# Altium footprint library Header_254.PcbLib: 78 footprints (part 9 of 9)
Each footprint in its own frame and in the unit in brackets; x right, y up, seen from the top. Pads: shape width x height; smd on the part's side, far side on the other; paste and mask are expansions set on the pad; w line width, h text height; cw(c..) or ccw(c..) is an arc to the next point about the centre after c.
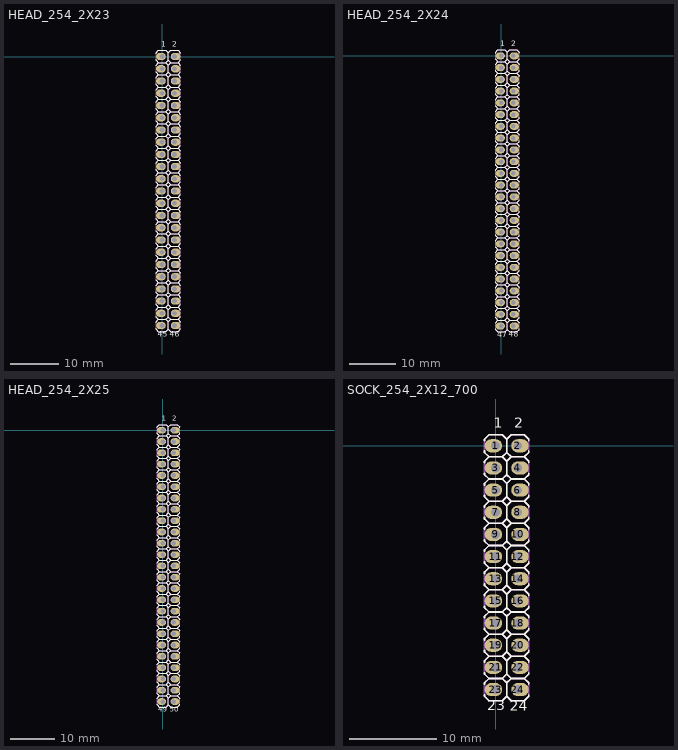
[diagram p8: the footprints below, top view; thin cyan lines are the x and y axes]

## HEAD_254_2X23 [mm] "Header 2.54mm 2x23"
pads (46):
  oval 2x1.5 hole 1 copper offset -0.25,0: 1(0,0) 3(0,-2.54) 5(0,-5.08) 7(0,-7.62) 9(0,-10.16) 11(0,-12.7) 13(0,-15.24) 15(0,-17.78) 17(0,-20.32) 19(0,-22.86) 21(0,-25.4) 23(0,-27.94) 25(0,-30.48) 27(0,-33.02) 29(0,-35.56) 31(0,-38.1) 33(0,-40.64) 35(0,-43.18) 37(0,-45.72) 39(0,-48.26) 41(0,-50.8) 43(0,-53.34) 45(0,-55.88)
  oval 2x1.5 hole 1 copper offset 0.25,0: 2(2.54,0) 4(2.54,-2.54) 6(2.54,-5.08) 8(2.54,-7.62) 10(2.54,-10.16) 12(2.54,-12.7) 14(2.54,-15.24) 16(2.54,-17.78) 18(2.54,-20.32) 20(2.54,-22.86) 22(2.54,-25.4) 24(2.54,-27.94) 26(2.54,-30.48) 28(2.54,-33.02) 30(2.54,-35.56) 32(2.54,-38.1) 34(2.54,-40.64) 36(2.54,-43.18) 38(2.54,-45.72) 40(2.54,-48.26) 42(2.54,-50.8) 44(2.54,-53.34) 46(2.54,-55.88)
Top Overlay:
  drawing of 347 lines, arcs and shapes, not listed
  text "46" at 1.597,-58.671 h2
  text "45" at -0.948,-58.669 h2
  text "2" at 2.115,1.644 h2
  text "1" at -0.236,1.644 h2
Bottom Overlay:
  text "46" at 3.483,-58.417 h2
  text "45" at 0.948,-58.415 h2
  text "2" at 2.965,0.882 h2
  text "1" at 0.236,0.882 h2
Top Assembly:
  drawing of 301 lines, arcs and shapes, not listed
3D body: height 2, standoff 0, extent -1.27,-57.15 1.27,-54.61
3D body: height 10, standoff -3, extent -0.35,-56.23 0.35,-55.53
3D body: height 2, standoff 0, extent 1.27,-57.15 3.81,-54.61
3D body: height 10, standoff -3, extent 2.19,-56.23 2.89,-55.53
3D body: height 2, standoff 0, extent -1.27,-54.61 1.27,-52.07
3D body: height 10, standoff -3, extent -0.35,-53.69 0.35,-52.99
3D body: height 2, standoff 0, extent 1.27,-54.61 3.81,-52.07
3D body: height 10, standoff -3, extent 2.19,-53.69 2.89,-52.99
3D body: height 2, standoff 0, extent -1.27,-52.07 1.27,-49.53
3D body: height 10, standoff -3, extent -0.35,-51.15 0.35,-50.45
3D body: height 2, standoff 0, extent 1.27,-52.07 3.81,-49.53
3D body: height 10, standoff -3, extent 2.19,-51.15 2.89,-50.45
3D body: height 2, standoff 0, extent -1.27,-49.53 1.27,-46.99
3D body: height 10, standoff -3, extent -0.35,-48.61 0.35,-47.91
3D body: height 2, standoff 0, extent 1.27,-49.53 3.81,-46.99
3D body: height 10, standoff -3, extent 2.19,-48.61 2.89,-47.91
3D body: height 2, standoff 0, extent -1.27,-46.99 1.27,-44.45
3D body: height 10, standoff -3, extent -0.35,-46.07 0.35,-45.37
3D body: height 2, standoff 0, extent 1.27,-46.99 3.81,-44.45
3D body: height 10, standoff -3, extent 2.19,-46.07 2.89,-45.37
3D body: height 2, standoff 0, extent -1.27,-44.45 1.27,-41.91
3D body: height 10, standoff -3, extent -0.35,-43.53 0.35,-42.83
3D body: height 2, standoff 0, extent 1.27,-44.45 3.81,-41.91
3D body: height 10, standoff -3, extent 2.19,-43.53 2.89,-42.83
3D body: height 2, standoff 0, extent -1.27,-41.91 1.27,-39.37
3D body: height 10, standoff -3, extent -0.35,-40.99 0.35,-40.29
3D body: height 2, standoff 0, extent 1.27,-41.91 3.81,-39.37
3D body: height 10, standoff -3, extent 2.19,-40.99 2.89,-40.29
3D body: height 2, standoff 0, extent -1.27,-39.37 1.27,-36.83
3D body: height 10, standoff -3, extent -0.35,-38.45 0.35,-37.75
3D body: height 2, standoff 0, extent 1.27,-39.37 3.81,-36.83
3D body: height 10, standoff -3, extent 2.19,-38.45 2.89,-37.75
3D body: height 2, standoff 0, extent -1.27,-36.83 1.27,-34.29
3D body: height 10, standoff -3, extent -0.35,-35.91 0.35,-35.21
3D body: height 2, standoff 0, extent 1.27,-36.83 3.81,-34.29
3D body: height 10, standoff -3, extent 2.19,-35.91 2.89,-35.21
3D body: height 2, standoff 0, extent -1.27,-34.29 1.27,-31.75
3D body: height 10, standoff -3, extent -0.35,-33.37 0.35,-32.67
3D body: height 2, standoff 0, extent 1.27,-34.29 3.81,-31.75
3D body: height 10, standoff -3, extent 2.19,-33.37 2.89,-32.67
3D body: height 2, standoff 0, extent -1.27,-31.75 1.27,-29.21
3D body: height 10, standoff -3, extent -0.35,-30.83 0.35,-30.13
3D body: height 2, standoff 0, extent 1.27,-31.75 3.81,-29.21
3D body: height 10, standoff -3, extent 2.19,-30.83 2.89,-30.13
3D body: height 2, standoff 0, extent -1.27,-29.21 1.27,-26.67
3D body: height 10, standoff -3, extent -0.35,-28.29 0.35,-27.59
3D body: height 2, standoff 0, extent 1.27,-29.21 3.81,-26.67
3D body: height 10, standoff -3, extent 2.19,-28.29 2.89,-27.59
3D body: height 2, standoff 0, extent -1.27,-26.67 1.27,-24.13
3D body: height 10, standoff -3, extent -0.35,-25.75 0.35,-25.05
3D body: height 2, standoff 0, extent 1.27,-26.67 3.81,-24.13
3D body: height 10, standoff -3, extent 2.19,-25.75 2.89,-25.05
3D body: height 2, standoff 0, extent -1.27,-24.13 1.27,-21.59
3D body: height 10, standoff -3, extent -0.35,-23.21 0.35,-22.51
3D body: height 2, standoff 0, extent 1.27,-24.13 3.81,-21.59
3D body: height 10, standoff -3, extent 2.19,-23.21 2.89,-22.51
3D body: height 2, standoff 0, extent -1.27,-21.59 1.27,-19.05
3D body: height 10, standoff -3, extent -0.35,-20.67 0.35,-19.97
3D body: height 2, standoff 0, extent 1.27,-21.59 3.81,-19.05
3D body: height 10, standoff -3, extent 2.19,-20.67 2.89,-19.97
3D body: height 2, standoff 0, extent -1.27,-19.05 1.27,-16.51
3D body: height 10, standoff -3, extent -0.35,-18.13 0.35,-17.43
3D body: height 2, standoff 0, extent 1.27,-19.05 3.81,-16.51
3D body: height 10, standoff -3, extent 2.19,-18.13 2.89,-17.43
3D body: height 2, standoff 0, extent -1.27,-16.51 1.27,-13.97
3D body: height 10, standoff -3, extent -0.35,-15.59 0.35,-14.89
3D body: height 2, standoff 0, extent 1.27,-16.51 3.81,-13.97
3D body: height 10, standoff -3, extent 2.19,-15.59 2.89,-14.89
3D body: height 2, standoff 0, extent -1.27,-13.97 1.27,-11.43
3D body: height 10, standoff -3, extent -0.35,-13.05 0.35,-12.35
3D body: height 2, standoff 0, extent 1.27,-13.97 3.81,-11.43
3D body: height 10, standoff -3, extent 2.19,-13.05 2.89,-12.35
3D body: height 2, standoff 0, extent -1.27,-11.43 1.27,-8.89
3D body: height 10, standoff -3, extent -0.35,-10.51 0.35,-9.81
3D body: height 2, standoff 0, extent 1.27,-11.43 3.81,-8.89
3D body: height 10, standoff -3, extent 2.19,-10.51 2.89,-9.81
3D body: height 2, standoff 0, extent -1.27,-1.27 1.27,1.27
3D body: height 10, standoff -3, extent -0.35,-0.35 0.35,0.35
3D body: height 2, standoff 0, extent 1.27,-1.27 3.81,1.27
3D body: height 10, standoff -3, extent 2.19,-0.35 2.89,0.35
3D body: height 2, standoff 0, extent -1.27,-3.81 1.27,-1.27
3D body: height 10, standoff -3, extent -0.35,-2.89 0.35,-2.19
3D body: height 2, standoff 0, extent 1.27,-3.81 3.81,-1.27
3D body: height 10, standoff -3, extent 2.19,-2.89 2.89,-2.19
3D body: height 2, standoff 0, extent -1.27,-6.35 1.27,-3.81
3D body: height 10, standoff -3, extent -0.35,-5.43 0.35,-4.73
3D body: height 2, standoff 0, extent 1.27,-6.35 3.81,-3.81
3D body: height 10, standoff -3, extent 2.19,-5.43 2.89,-4.73
3D body: height 2, standoff 0, extent -1.27,-8.89 1.27,-6.35
3D body: height 10, standoff -3, extent -0.35,-7.97 0.35,-7.27
3D body: height 2, standoff 0, extent 1.27,-8.89 3.81,-6.35
3D body: height 10, standoff -3, extent 2.19,-7.97 2.89,-7.27

## HEAD_254_2X24 [mm] "Header 2.54mm 2x24"
pads (48):
  oval 2x1.5 hole 1 copper offset -0.25,0: 1(0,0) 3(0,-2.54) 5(0,-5.08) 7(0,-7.62) 9(0,-10.16) 11(0,-12.7) 13(0,-15.24) 15(0,-17.78) 17(0,-20.32) 19(0,-22.86) 21(0,-25.4) 23(0,-27.94) 25(0,-30.48) 27(0,-33.02) 29(0,-35.56) 31(0,-38.1) 33(0,-40.64) 35(0,-43.18) 37(0,-45.72) 39(0,-48.26) 41(0,-50.8) 43(0,-53.34) 45(0,-55.88) 47(0,-58.42)
  oval 2x1.5 hole 1 copper offset 0.25,0: 2(2.54,0) 4(2.54,-2.54) 6(2.54,-5.08) 8(2.54,-7.62) 10(2.54,-10.16) 12(2.54,-12.7) 14(2.54,-15.24) 16(2.54,-17.78) 18(2.54,-20.32) 20(2.54,-22.86) 22(2.54,-25.4) 24(2.54,-27.94) 26(2.54,-30.48) 28(2.54,-33.02) 30(2.54,-35.56) 32(2.54,-38.1) 34(2.54,-40.64) 36(2.54,-43.18) 38(2.54,-45.72) 40(2.54,-48.26) 42(2.54,-50.8) 44(2.54,-53.34) 46(2.54,-55.88) 48(2.54,-58.42)
Top Overlay:
  drawing of 362 lines, arcs and shapes, not listed
  text "48" at 1.596,-61.211 h2
  text "47" at -0.943,-61.219 h2
  text "2" at 2.115,1.644 h2
  text "1" at -0.236,1.644 h2
Bottom Overlay:
  text "48" at 3.484,-60.957 h2
  text "47" at 0.943,-60.965 h2
  text "2" at 2.965,0.882 h2
  text "1" at 0.236,0.882 h2
Top Assembly:
  drawing of 314 lines, arcs and shapes, not listed
3D body: height 2, standoff 0, extent -1.27,-59.69 1.27,-57.15
3D body: height 10, standoff -3, extent -0.35,-58.77 0.35,-58.07
3D body: height 2, standoff 0, extent 1.27,-59.69 3.81,-57.15
3D body: height 10, standoff -3, extent 2.19,-58.77 2.89,-58.07
3D body: height 2, standoff 0, extent -1.27,-57.15 1.27,-54.61
3D body: height 10, standoff -3, extent -0.35,-56.23 0.35,-55.53
3D body: height 2, standoff 0, extent 1.27,-57.15 3.81,-54.61
3D body: height 10, standoff -3, extent 2.19,-56.23 2.89,-55.53
3D body: height 2, standoff 0, extent -1.27,-54.61 1.27,-52.07
3D body: height 10, standoff -3, extent -0.35,-53.69 0.35,-52.99
3D body: height 2, standoff 0, extent 1.27,-54.61 3.81,-52.07
3D body: height 10, standoff -3, extent 2.19,-53.69 2.89,-52.99
3D body: height 2, standoff 0, extent -1.27,-52.07 1.27,-49.53
3D body: height 10, standoff -3, extent -0.35,-51.15 0.35,-50.45
3D body: height 2, standoff 0, extent 1.27,-52.07 3.81,-49.53
3D body: height 10, standoff -3, extent 2.19,-51.15 2.89,-50.45
3D body: height 2, standoff 0, extent -1.27,-49.53 1.27,-46.99
3D body: height 10, standoff -3, extent -0.35,-48.61 0.35,-47.91
3D body: height 2, standoff 0, extent 1.27,-49.53 3.81,-46.99
3D body: height 10, standoff -3, extent 2.19,-48.61 2.89,-47.91
3D body: height 2, standoff 0, extent -1.27,-46.99 1.27,-44.45
3D body: height 10, standoff -3, extent -0.35,-46.07 0.35,-45.37
3D body: height 2, standoff 0, extent 1.27,-46.99 3.81,-44.45
3D body: height 10, standoff -3, extent 2.19,-46.07 2.89,-45.37
3D body: height 2, standoff 0, extent -1.27,-44.45 1.27,-41.91
3D body: height 10, standoff -3, extent -0.35,-43.53 0.35,-42.83
3D body: height 2, standoff 0, extent 1.27,-44.45 3.81,-41.91
3D body: height 10, standoff -3, extent 2.19,-43.53 2.89,-42.83
3D body: height 2, standoff 0, extent -1.27,-41.91 1.27,-39.37
3D body: height 10, standoff -3, extent -0.35,-40.99 0.35,-40.29
3D body: height 2, standoff 0, extent 1.27,-41.91 3.81,-39.37
3D body: height 10, standoff -3, extent 2.19,-40.99 2.89,-40.29
3D body: height 2, standoff 0, extent -1.27,-39.37 1.27,-36.83
3D body: height 10, standoff -3, extent -0.35,-38.45 0.35,-37.75
3D body: height 2, standoff 0, extent 1.27,-39.37 3.81,-36.83
3D body: height 10, standoff -3, extent 2.19,-38.45 2.89,-37.75
3D body: height 2, standoff 0, extent -1.27,-36.83 1.27,-34.29
3D body: height 10, standoff -3, extent -0.35,-35.91 0.35,-35.21
3D body: height 2, standoff 0, extent 1.27,-36.83 3.81,-34.29
3D body: height 10, standoff -3, extent 2.19,-35.91 2.89,-35.21
3D body: height 2, standoff 0, extent -1.27,-34.29 1.27,-31.75
3D body: height 10, standoff -3, extent -0.35,-33.37 0.35,-32.67
3D body: height 2, standoff 0, extent 1.27,-34.29 3.81,-31.75
3D body: height 10, standoff -3, extent 2.19,-33.37 2.89,-32.67
3D body: height 2, standoff 0, extent -1.27,-31.75 1.27,-29.21
3D body: height 10, standoff -3, extent -0.35,-30.83 0.35,-30.13
3D body: height 2, standoff 0, extent 1.27,-31.75 3.81,-29.21
3D body: height 10, standoff -3, extent 2.19,-30.83 2.89,-30.13
3D body: height 2, standoff 0, extent -1.27,-29.21 1.27,-26.67
3D body: height 10, standoff -3, extent -0.35,-28.29 0.35,-27.59
3D body: height 2, standoff 0, extent 1.27,-29.21 3.81,-26.67
3D body: height 10, standoff -3, extent 2.19,-28.29 2.89,-27.59
3D body: height 2, standoff 0, extent -1.27,-26.67 1.27,-24.13
3D body: height 10, standoff -3, extent -0.35,-25.75 0.35,-25.05
3D body: height 2, standoff 0, extent 1.27,-26.67 3.81,-24.13
3D body: height 10, standoff -3, extent 2.19,-25.75 2.89,-25.05
3D body: height 2, standoff 0, extent -1.27,-24.13 1.27,-21.59
3D body: height 10, standoff -3, extent -0.35,-23.21 0.35,-22.51
3D body: height 2, standoff 0, extent 1.27,-24.13 3.81,-21.59
3D body: height 10, standoff -3, extent 2.19,-23.21 2.89,-22.51
3D body: height 2, standoff 0, extent -1.27,-21.59 1.27,-19.05
3D body: height 10, standoff -3, extent -0.35,-20.67 0.35,-19.97
3D body: height 2, standoff 0, extent 1.27,-21.59 3.81,-19.05
3D body: height 10, standoff -3, extent 2.19,-20.67 2.89,-19.97
3D body: height 2, standoff 0, extent -1.27,-19.05 1.27,-16.51
3D body: height 10, standoff -3, extent -0.35,-18.13 0.35,-17.43
3D body: height 2, standoff 0, extent 1.27,-19.05 3.81,-16.51
3D body: height 10, standoff -3, extent 2.19,-18.13 2.89,-17.43
3D body: height 2, standoff 0, extent -1.27,-16.51 1.27,-13.97
3D body: height 10, standoff -3, extent -0.35,-15.59 0.35,-14.89
3D body: height 2, standoff 0, extent 1.27,-16.51 3.81,-13.97
3D body: height 10, standoff -3, extent 2.19,-15.59 2.89,-14.89
3D body: height 2, standoff 0, extent -1.27,-13.97 1.27,-11.43
3D body: height 10, standoff -3, extent -0.35,-13.05 0.35,-12.35
3D body: height 2, standoff 0, extent 1.27,-13.97 3.81,-11.43
3D body: height 10, standoff -3, extent 2.19,-13.05 2.89,-12.35
3D body: height 2, standoff 0, extent -1.27,-11.43 1.27,-8.89
3D body: height 10, standoff -3, extent -0.35,-10.51 0.35,-9.81
3D body: height 2, standoff 0, extent 1.27,-11.43 3.81,-8.89
3D body: height 10, standoff -3, extent 2.19,-10.51 2.89,-9.81
3D body: height 2, standoff 0, extent -1.27,-1.27 1.27,1.27
3D body: height 10, standoff -3, extent -0.35,-0.35 0.35,0.35
3D body: height 2, standoff 0, extent 1.27,-1.27 3.81,1.27
3D body: height 10, standoff -3, extent 2.19,-0.35 2.89,0.35
3D body: height 2, standoff 0, extent -1.27,-3.81 1.27,-1.27
3D body: height 10, standoff -3, extent -0.35,-2.89 0.35,-2.19
3D body: height 2, standoff 0, extent 1.27,-3.81 3.81,-1.27
3D body: height 10, standoff -3, extent 2.19,-2.89 2.89,-2.19
3D body: height 2, standoff 0, extent -1.27,-6.35 1.27,-3.81
3D body: height 10, standoff -3, extent -0.35,-5.43 0.35,-4.73
3D body: height 2, standoff 0, extent 1.27,-6.35 3.81,-3.81
3D body: height 10, standoff -3, extent 2.19,-5.43 2.89,-4.73
3D body: height 2, standoff 0, extent -1.27,-8.89 1.27,-6.35
3D body: height 10, standoff -3, extent -0.35,-7.97 0.35,-7.27
3D body: height 2, standoff 0, extent 1.27,-8.89 3.81,-6.35
3D body: height 10, standoff -3, extent 2.19,-7.97 2.89,-7.27

## HEAD_254_2X25 [mm] "Header 2.54mm 2x25"
pads (50):
  oval 2x1.5 hole 1 copper offset -0.25,0: 1(0,0) 3(0,-2.54) 5(0,-5.08) 7(0,-7.62) 9(0,-10.16) 11(0,-12.7) 13(0,-15.24) 15(0,-17.78) 17(0,-20.32) 19(0,-22.86) 21(0,-25.4) 23(0,-27.94) 25(0,-30.48) 27(0,-33.02) 29(0,-35.56) 31(0,-38.1) 33(0,-40.64) 35(0,-43.18) 37(0,-45.72) 39(0,-48.26) 41(0,-50.8) 43(0,-53.34) 45(0,-55.88) 47(0,-58.42) 49(0,-60.96)
  oval 2x1.5 hole 1 copper offset 0.25,0: 2(2.54,0) 4(2.54,-2.54) 6(2.54,-5.08) 8(2.54,-7.62) 10(2.54,-10.16) 12(2.54,-12.7) 14(2.54,-15.24) 16(2.54,-17.78) 18(2.54,-20.32) 20(2.54,-22.86) 22(2.54,-25.4) 24(2.54,-27.94) 26(2.54,-30.48) 28(2.54,-33.02) 30(2.54,-35.56) 32(2.54,-38.1) 34(2.54,-40.64) 36(2.54,-43.18) 38(2.54,-45.72) 40(2.54,-48.26) 42(2.54,-50.8) 44(2.54,-53.34) 46(2.54,-55.88) 48(2.54,-58.42) 50(2.54,-60.96)
Top Overlay:
  drawing of 377 lines, arcs and shapes, not listed
  text "1" at -0.236,1.644 h2
  text "2" at 2.115,1.644 h2
  text "49" at -0.944,-63.751 h2
  text "50" at 1.626,-63.751 h2
Bottom Overlay:
  text "1" at 0.236,0.882 h2
  text "2" at 2.965,0.882 h2
  text "49" at 0.944,-63.497 h2
  text "50" at 3.454,-63.497 h2
Top Assembly:
  drawing of 327 lines, arcs and shapes, not listed
3D body: height 10, standoff -3, extent 2.19,-7.97 2.89,-7.27
3D body: height 2, standoff 0, extent 1.27,-8.89 3.81,-6.35
3D body: height 10, standoff -3, extent -0.35,-7.97 0.35,-7.27
3D body: height 2, standoff 0, extent -1.27,-8.89 1.27,-6.35
3D body: height 10, standoff -3, extent 2.19,-5.43 2.89,-4.73
3D body: height 2, standoff 0, extent 1.27,-6.35 3.81,-3.81
3D body: height 10, standoff -3, extent -0.35,-5.43 0.35,-4.73
3D body: height 2, standoff 0, extent -1.27,-6.35 1.27,-3.81
3D body: height 10, standoff -3, extent 2.19,-2.89 2.89,-2.19
3D body: height 2, standoff 0, extent 1.27,-3.81 3.81,-1.27
3D body: height 10, standoff -3, extent -0.35,-2.89 0.35,-2.19
3D body: height 2, standoff 0, extent -1.27,-3.81 1.27,-1.27
3D body: height 10, standoff -3, extent 2.19,-0.35 2.89,0.35
3D body: height 2, standoff 0, extent 1.27,-1.27 3.81,1.27
3D body: height 10, standoff -3, extent -0.35,-0.35 0.35,0.35
3D body: height 2, standoff 0, extent -1.27,-1.27 1.27,1.27
3D body: height 10, standoff -3, extent 2.19,-10.51 2.89,-9.81
3D body: height 2, standoff 0, extent 1.27,-11.43 3.81,-8.89
3D body: height 10, standoff -3, extent -0.35,-10.51 0.35,-9.81
3D body: height 2, standoff 0, extent -1.27,-11.43 1.27,-8.89
3D body: height 10, standoff -3, extent 2.19,-13.05 2.89,-12.35
3D body: height 2, standoff 0, extent 1.27,-13.97 3.81,-11.43
3D body: height 10, standoff -3, extent -0.35,-13.05 0.35,-12.35
3D body: height 2, standoff 0, extent -1.27,-13.97 1.27,-11.43
3D body: height 10, standoff -3, extent 2.19,-15.59 2.89,-14.89
3D body: height 2, standoff 0, extent 1.27,-16.51 3.81,-13.97
3D body: height 10, standoff -3, extent -0.35,-15.59 0.35,-14.89
3D body: height 2, standoff 0, extent -1.27,-16.51 1.27,-13.97
3D body: height 10, standoff -3, extent 2.19,-18.13 2.89,-17.43
3D body: height 2, standoff 0, extent 1.27,-19.05 3.81,-16.51
3D body: height 10, standoff -3, extent -0.35,-18.13 0.35,-17.43
3D body: height 2, standoff 0, extent -1.27,-19.05 1.27,-16.51
3D body: height 10, standoff -3, extent 2.19,-20.67 2.89,-19.97
3D body: height 2, standoff 0, extent 1.27,-21.59 3.81,-19.05
3D body: height 10, standoff -3, extent -0.35,-20.67 0.35,-19.97
3D body: height 2, standoff 0, extent -1.27,-21.59 1.27,-19.05
3D body: height 10, standoff -3, extent 2.19,-23.21 2.89,-22.51
3D body: height 2, standoff 0, extent 1.27,-24.13 3.81,-21.59
3D body: height 10, standoff -3, extent -0.35,-23.21 0.35,-22.51
3D body: height 2, standoff 0, extent -1.27,-24.13 1.27,-21.59
3D body: height 10, standoff -3, extent 2.19,-25.75 2.89,-25.05
3D body: height 2, standoff 0, extent 1.27,-26.67 3.81,-24.13
3D body: height 10, standoff -3, extent -0.35,-25.75 0.35,-25.05
3D body: height 2, standoff 0, extent -1.27,-26.67 1.27,-24.13
3D body: height 10, standoff -3, extent 2.19,-28.29 2.89,-27.59
3D body: height 2, standoff 0, extent 1.27,-29.21 3.81,-26.67
3D body: height 10, standoff -3, extent -0.35,-28.29 0.35,-27.59
3D body: height 2, standoff 0, extent -1.27,-29.21 1.27,-26.67
3D body: height 10, standoff -3, extent 2.19,-30.83 2.89,-30.13
3D body: height 2, standoff 0, extent 1.27,-31.75 3.81,-29.21
3D body: height 10, standoff -3, extent -0.35,-30.83 0.35,-30.13
3D body: height 2, standoff 0, extent -1.27,-31.75 1.27,-29.21
3D body: height 10, standoff -3, extent 2.19,-33.37 2.89,-32.67
3D body: height 2, standoff 0, extent 1.27,-34.29 3.81,-31.75
3D body: height 10, standoff -3, extent -0.35,-33.37 0.35,-32.67
3D body: height 2, standoff 0, extent -1.27,-34.29 1.27,-31.75
3D body: height 10, standoff -3, extent 2.19,-35.91 2.89,-35.21
3D body: height 2, standoff 0, extent 1.27,-36.83 3.81,-34.29
3D body: height 10, standoff -3, extent -0.35,-35.91 0.35,-35.21
3D body: height 2, standoff 0, extent -1.27,-36.83 1.27,-34.29
3D body: height 10, standoff -3, extent 2.19,-38.45 2.89,-37.75
3D body: height 2, standoff 0, extent 1.27,-39.37 3.81,-36.83
3D body: height 10, standoff -3, extent -0.35,-38.45 0.35,-37.75
3D body: height 2, standoff 0, extent -1.27,-39.37 1.27,-36.83
3D body: height 10, standoff -3, extent 2.19,-40.99 2.89,-40.29
3D body: height 2, standoff 0, extent 1.27,-41.91 3.81,-39.37
3D body: height 10, standoff -3, extent -0.35,-40.99 0.35,-40.29
3D body: height 2, standoff 0, extent -1.27,-41.91 1.27,-39.37
3D body: height 10, standoff -3, extent 2.19,-43.53 2.89,-42.83
3D body: height 2, standoff 0, extent 1.27,-44.45 3.81,-41.91
3D body: height 10, standoff -3, extent -0.35,-43.53 0.35,-42.83
3D body: height 2, standoff 0, extent -1.27,-44.45 1.27,-41.91
3D body: height 10, standoff -3, extent 2.19,-46.07 2.89,-45.37
3D body: height 2, standoff 0, extent 1.27,-46.99 3.81,-44.45
3D body: height 10, standoff -3, extent -0.35,-46.07 0.35,-45.37
3D body: height 2, standoff 0, extent -1.27,-46.99 1.27,-44.45
3D body: height 10, standoff -3, extent 2.19,-48.61 2.89,-47.91
3D body: height 2, standoff 0, extent 1.27,-49.53 3.81,-46.99
3D body: height 10, standoff -3, extent -0.35,-48.61 0.35,-47.91
3D body: height 2, standoff 0, extent -1.27,-49.53 1.27,-46.99
3D body: height 10, standoff -3, extent 2.19,-51.15 2.89,-50.45
3D body: height 2, standoff 0, extent 1.27,-52.07 3.81,-49.53
3D body: height 10, standoff -3, extent -0.35,-51.15 0.35,-50.45
3D body: height 2, standoff 0, extent -1.27,-52.07 1.27,-49.53
3D body: height 10, standoff -3, extent 2.19,-53.69 2.89,-52.99
3D body: height 2, standoff 0, extent 1.27,-54.61 3.81,-52.07
3D body: height 10, standoff -3, extent -0.35,-53.69 0.35,-52.99
3D body: height 2, standoff 0, extent -1.27,-54.61 1.27,-52.07
3D body: height 10, standoff -3, extent 2.19,-56.23 2.89,-55.53
3D body: height 2, standoff 0, extent 1.27,-57.15 3.81,-54.61
3D body: height 10, standoff -3, extent -0.35,-56.23 0.35,-55.53
3D body: height 2, standoff 0, extent -1.27,-57.15 1.27,-54.61
3D body: height 10, standoff -3, extent 2.19,-58.77 2.89,-58.07
3D body: height 2, standoff 0, extent 1.27,-59.69 3.81,-57.15
3D body: height 10, standoff -3, extent -0.35,-58.77 0.35,-58.07
3D body: height 2, standoff 0, extent -1.27,-59.69 1.27,-57.15
3D body: height 10, standoff -3, extent 2.19,-61.31 2.89,-60.61
3D body: height 2, standoff 0, extent 1.27,-62.23 3.81,-59.69
3D body: height 10, standoff -3, extent -0.35,-61.31 0.35,-60.61
3D body: height 2, standoff 0, extent -1.27,-62.23 1.27,-59.69

## SOCK_254_2X12_700 [mm] "Socket 2.54mm 2x12, height 7mm"
pads (24):
  oval 2x1.5 hole 1 copper offset -0.25,0: 1(0,0) 3(0,-2.54) 5(0,-5.08) 7(0,-7.62) 9(0,-10.16) 11(0,-12.7) 13(0,-15.24) 15(0,-17.78) 17(0,-20.32) 19(0,-22.86) 21(0,-25.4) 23(0,-27.94)
  oval 2x1.5 hole 1 copper offset 0.25,0: 2(2.54,0) 4(2.54,-2.54) 6(2.54,-5.08) 8(2.54,-7.62) 10(2.54,-10.16) 12(2.54,-12.7) 14(2.54,-15.24) 16(2.54,-17.78) 18(2.54,-20.32) 20(2.54,-22.86) 22(2.54,-25.4) 24(2.54,-27.94)
Top Overlay:
  drawing of 204 lines, arcs and shapes, not listed
  text "24" at 1.614,-30.741 h2
  text "23" at -0.928,-30.73 h2
  text "2" at 2.115,1.644 h2
  text "1" at -0.236,1.644 h2
Bottom Overlay:
  text "24" at 3.466,-30.487 h2
  text "23" at 0.928,-30.476 h2
  text "2" at 2.965,0.882 h2
  text "1" at 0.236,0.882 h2
Top Assembly:
  drawing of 158 lines, arcs and shapes, not listed
3D body: height 7, standoff 0, extent 1.27,-1.27 3.81,1.27
3D body: height 0.5, standoff -3, extent 2.24,-0.3 2.84,0.3
3D body: height 6.8, standoff 0.9, extent 1.74,-0.8 3.34,0.8
3D body: height 0.9, standoff 0.5, extent 1.74,-0.8 3.34,0.8
3D body: height 7, standoff 0, extent 1.27,-3.81 3.81,-1.27
3D body: height 0.5, standoff -3, extent 2.24,-2.84 2.84,-2.24
3D body: height 6.8, standoff 0.9, extent 1.74,-3.34 3.34,-1.74
3D body: height 0.9, standoff 0.5, extent 1.74,-3.34 3.34,-1.74
3D body: height 7, standoff 0, extent 1.27,-6.35 3.81,-3.81
3D body: height 0.5, standoff -3, extent 2.24,-5.38 2.84,-4.78
3D body: height 6.8, standoff 0.9, extent 1.74,-5.88 3.34,-4.28
3D body: height 0.9, standoff 0.5, extent 1.74,-5.88 3.34,-4.28
3D body: height 7, standoff 0, extent 1.27,-8.89 3.81,-6.35
3D body: height 0.5, standoff -3, extent 2.24,-7.92 2.84,-7.32
3D body: height 6.8, standoff 0.9, extent 1.74,-8.42 3.34,-6.82
3D body: height 0.9, standoff 0.5, extent 1.74,-8.42 3.34,-6.82
3D body: height 7, standoff 0, extent 1.27,-11.43 3.81,-8.89
3D body: height 0.5, standoff -3, extent 2.24,-10.46 2.84,-9.86
3D body: height 6.8, standoff 0.9, extent 1.74,-10.96 3.34,-9.36
3D body: height 0.9, standoff 0.5, extent 1.74,-10.96 3.34,-9.36
3D body: height 7, standoff 0, extent 1.27,-13.97 3.81,-11.43
3D body: height 0.5, standoff -3, extent 2.24,-13 2.84,-12.4
3D body: height 6.8, standoff 0.9, extent 1.74,-13.5 3.34,-11.9
3D body: height 0.9, standoff 0.5, extent 1.74,-13.5 3.34,-11.9
3D body: height 7, standoff 0, extent 1.27,-16.51 3.81,-13.97
3D body: height 0.5, standoff -3, extent 2.24,-15.54 2.84,-14.94
3D body: height 6.8, standoff 0.9, extent 1.74,-16.04 3.34,-14.44
3D body: height 0.9, standoff 0.5, extent 1.74,-16.04 3.34,-14.44
3D body: height 7, standoff 0, extent 1.27,-19.05 3.81,-16.51
3D body: height 0.5, standoff -3, extent 2.24,-18.08 2.84,-17.48
3D body: height 6.8, standoff 0.9, extent 1.74,-18.58 3.34,-16.98
3D body: height 0.9, standoff 0.5, extent 1.74,-18.58 3.34,-16.98
3D body: height 7, standoff 0, extent 1.27,-21.59 3.81,-19.05
3D body: height 0.5, standoff -3, extent 2.24,-20.62 2.84,-20.02
3D body: height 6.8, standoff 0.9, extent 1.74,-21.12 3.34,-19.52
3D body: height 0.9, standoff 0.5, extent 1.74,-21.12 3.34,-19.52
3D body: height 7, standoff 0, extent 1.27,-24.13 3.81,-21.59
3D body: height 0.5, standoff -3, extent 2.24,-23.16 2.84,-22.56
3D body: height 6.8, standoff 0.9, extent 1.74,-23.66 3.34,-22.06
3D body: height 0.9, standoff 0.5, extent 1.74,-23.66 3.34,-22.06
3D body: height 7, standoff 0, extent 1.27,-26.67 3.81,-24.13
3D body: height 0.5, standoff -3, extent 2.24,-25.7 2.84,-25.1
3D body: height 6.8, standoff 0.9, extent 1.74,-26.2 3.34,-24.6
3D body: height 0.9, standoff 0.5, extent 1.74,-26.2 3.34,-24.6
3D body: height 7, standoff 0, extent 1.27,-29.21 3.81,-26.67
3D body: height 0.5, standoff -3, extent 2.24,-28.24 2.84,-27.64
3D body: height 6.8, standoff 0.9, extent 1.74,-28.74 3.34,-27.14
3D body: height 0.9, standoff 0.5, extent 1.74,-28.74 3.34,-27.14
3D body: height 7, standoff 0, extent -1.27,-29.21 1.27,-26.67
3D body: height 0.5, standoff -3, extent -0.3,-28.24 0.3,-27.64
3D body: height 6.8, standoff 0.9, extent -0.8,-28.74 0.8,-27.14
3D body: height 0.9, standoff 0.5, extent -0.8,-28.74 0.8,-27.14
3D body: height 7, standoff 0, extent -1.27,-26.67 1.27,-24.13
3D body: height 0.5, standoff -3, extent -0.3,-25.7 0.3,-25.1
3D body: height 6.8, standoff 0.9, extent -0.8,-26.2 0.8,-24.6
3D body: height 0.9, standoff 0.5, extent -0.8,-26.2 0.8,-24.6
3D body: height 7, standoff 0, extent -1.27,-24.13 1.27,-21.59
3D body: height 0.5, standoff -3, extent -0.3,-23.16 0.3,-22.56
3D body: height 6.8, standoff 0.9, extent -0.8,-23.66 0.8,-22.06
3D body: height 0.9, standoff 0.5, extent -0.8,-23.66 0.8,-22.06
3D body: height 7, standoff 0, extent -1.27,-21.59 1.27,-19.05
3D body: height 0.5, standoff -3, extent -0.3,-20.62 0.3,-20.02
3D body: height 6.8, standoff 0.9, extent -0.8,-21.12 0.8,-19.52
3D body: height 0.9, standoff 0.5, extent -0.8,-21.12 0.8,-19.52
3D body: height 7, standoff 0, extent -1.27,-19.05 1.27,-16.51
3D body: height 0.5, standoff -3, extent -0.3,-18.08 0.3,-17.48
3D body: height 6.8, standoff 0.9, extent -0.8,-18.58 0.8,-16.98
3D body: height 0.9, standoff 0.5, extent -0.8,-18.58 0.8,-16.98
3D body: height 7, standoff 0, extent -1.27,-16.51 1.27,-13.97
3D body: height 0.5, standoff -3, extent -0.3,-15.54 0.3,-14.94
3D body: height 6.8, standoff 0.9, extent -0.8,-16.04 0.8,-14.44
3D body: height 0.9, standoff 0.5, extent -0.8,-16.04 0.8,-14.44
3D body: height 7, standoff 0, extent -1.27,-13.97 1.27,-11.43
3D body: height 0.5, standoff -3, extent -0.3,-13 0.3,-12.4
3D body: height 6.8, standoff 0.9, extent -0.8,-13.5 0.8,-11.9
3D body: height 0.9, standoff 0.5, extent -0.8,-13.5 0.8,-11.9
3D body: height 7, standoff 0, extent -1.27,-11.43 1.27,-8.89
3D body: height 0.5, standoff -3, extent -0.3,-10.46 0.3,-9.86
3D body: height 6.8, standoff 0.9, extent -0.8,-10.96 0.8,-9.36
3D body: height 0.9, standoff 0.5, extent -0.8,-10.96 0.8,-9.36
3D body: height 7, standoff 0, extent -1.27,-8.89 1.27,-6.35
3D body: height 0.5, standoff -3, extent -0.3,-7.92 0.3,-7.32
3D body: height 6.8, standoff 0.9, extent -0.8,-8.42 0.8,-6.82
3D body: height 0.9, standoff 0.5, extent -0.8,-8.42 0.8,-6.82
3D body: height 7, standoff 0, extent -1.27,-6.35 1.27,-3.81
3D body: height 0.5, standoff -3, extent -0.3,-5.38 0.3,-4.78
3D body: height 6.8, standoff 0.9, extent -0.8,-5.88 0.8,-4.28
3D body: height 0.9, standoff 0.5, extent -0.8,-5.88 0.8,-4.28
3D body: height 7, standoff 0, extent -1.27,-3.81 1.27,-1.27
3D body: height 0.5, standoff -3, extent -0.3,-2.84 0.3,-2.24
3D body: height 6.8, standoff 0.9, extent -0.8,-3.34 0.8,-1.74
3D body: height 0.9, standoff 0.5, extent -0.8,-3.34 0.8,-1.74
3D body: height 7, standoff 0, extent -1.27,-1.27 1.27,1.27
3D body: height 0.5, standoff -3, extent -0.3,-0.3 0.3,0.3
3D body: height 6.8, standoff 0.9, extent -0.8,-0.8 0.8,0.8
3D body: height 0.9, standoff 0.5, extent -0.8,-0.8 0.8,0.8